# Altium schematic symbol library Geiger.SchLib: 11 symbols
Pins are listed as number, name and electrical type; pins without a type are passive.

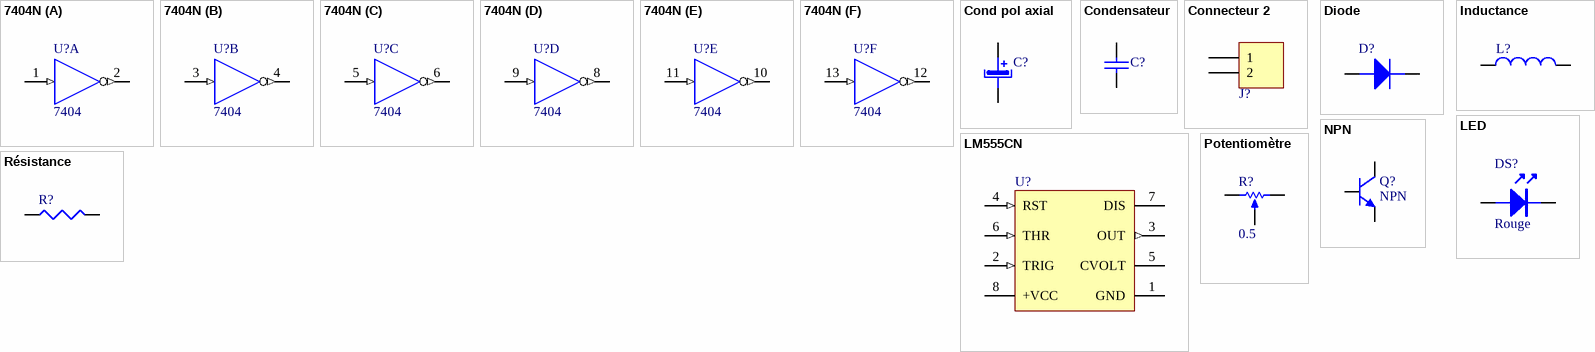
[diagram p0: symbols 7404N to Résistance]

## 7404N
designator U?  Type: 7404
6 inverters; Designer: ECAM 8/06/2000
footprint DIP14 (DIP; 14 Leads; Row Spacing 7.62 mm; Pitch 2.54 mm)
pins on every part: 7 GND (power) hidden to GND, 14 VCC (power) hidden to VCC
part A pins: 1 A (in), 2 Y (out)
part B pins: 3 A (in), 4 Y (out)
part C pins: 5 A (in), 6 Y (out)
part D pins: 8 Y (out), 9 A (in)
part E pins: 10 Y (out), 11 A (in)
part F pins: 12 Y (out), 13 A (in)

## Cond pol axial
designator C?
Condensateur polarisé; Type: Condensateur polarisé couché; Designer: ECAM 2004
footprint CAPPR2-5x6.8 (Capacitor, Electrolytic, Radial; Body 5 x 6.8 mm (Dia.xH typ); Pin Spacing 2 mm (typ))
footprint CAPPR5-5x5 (Capacitor, Electrolytic, Radial; Body 5 x 5 mm (Dia.xH typ); Pin Spacing 5 mm (typ))
footprint CAPPR7.5-16x35 (Capacitor, Electrolytic, Radial; Body 16 x 35 mm (Dia.xH typ); Pin Spacing 7.5 mm (typ))
footprint CAPR2.54-5.1x3.2 (Capacitor, Ceramic, Thru-Hole, Dipped Radial; Body 5.1 x 3.2 mm (WxT) Pin Spacing 2.54 mm (typ))
pins: 1 +, 2 -
2 alternate drawings of the same symbol

## Condensateur
designator C?
Condensateur; Supplier: Farnell; Designer: ECAM 2004
footprint CAPPR2-5x6.8 (Capacitor, Electrolytic, Radial; Body 5 x 6.8 mm (Dia.xH typ); Pin Spacing 2 mm (typ))
footprint CAPPR5-5x5 (Capacitor, Electrolytic, Radial; Body 5 x 5 mm (Dia.xH typ); Pin Spacing 5 mm (typ))
footprint CAPPR7.5-16x35 (Capacitor, Electrolytic, Radial; Body 16 x 35 mm (Dia.xH typ); Pin Spacing 7.5 mm (typ))
footprint CAPR2.54-5.1x3.2 (Capacitor, Ceramic, Thru-Hole, Dipped Radial; Body 5.1 x 3.2 mm (WxT) Pin Spacing 2.54 mm (typ))
footprint AXIAL-0.4 (Resistor; 2 Leads)
footprint AXIAL-0.3 (Resistor; 2 Leads)
pins: 1, 2

## Connecteur 2
designator J?
Connecteur; Designer: ECAM 2005; Type: Connecteur à vis
footprint HDR1X2 (Connector; Header; 2 Position)
pins: 1, 2

## Diode
designator D?
Diode; Type: Diode standard; Designer: ECAM 2003
footprint DIODE-0.4 (Tunnel Diode - Dependent Source Model; 2 Leads)
footprint AXIAL-0.4 (Resistor; 2 Leads)
footprint AXIAL-0.3 (Resistor; 2 Leads)
pins: 1 A, 2 K

## Inductance
designator L?
Inductance; Designer: ECAM 2003
footprint CAPPR7.5-16x35 (Capacitor, Electrolytic, Radial; Body 16 x 35 mm (Dia.xH typ); Pin Spacing 7.5 mm (typ))
pins: 1, 2

## LED
designator DS?  Color: Rouge
LED; Designer: ECAM 2004; Type: LED
footprint LED 0.1 (Led Verticale)
pins: 1 A, 2 K

## LM555CN
designator U?
Timer, 8-pin MDIP; PartNumber: LM555CN; Manufacturer: National Semiconductor; PackageTopMarking: NSUZXYTTE#*LM*555CN; PowerWise: N; CompType: Analog IC; Published: 4-Dec-2008; DatasheetVersion: Jul-2006; PackageVersion: revG, May-2006; PackageReference: N08E; Publisher: Altium Limited; PackageDescription: MDIP, .365 x .250 x .130in, 8 Lead, .100in Pitch; Supplier 1: Farnell; Supplier Part Number 1: 9488235; RoHS: N; PinCount: 8; Code_JEDEC: MS-001-BA; ComponentLink1Description: LM555 Datasheet; ComponentLink1URL: http://www.national.com/ds/LM/LM555.pdf; ComponentLink2Description: LM555 Web Page; ComponentLink2URL: http://www.national.com/pf/LM/LM555.html; ComponentLink3Description: N08E Package Page; ComponentLink3URL: http://www.national.com/packaging/folders/n08e.html
footprint DIP8 (DIP; 8 Leads; Row Spacing 7.62 mm; Pitch 2.54 mm)
pins: 1 GND (power), 2 TRIG (in), 3 OUT (out), 4 RST (in), 5 CVOLT, 6 THR (in), 7 DIS (oc), 8 +VCC (power)

## NPN
designator Q?  value NPN
Transistor Bipolaire; Type: Transistor Bipolaire NPN; Designer: ECAM 2002
footprint TO-92 (TO, Flat Index; 3 In-Line, Axial Leads; Body Dia. 4.6mm; Leads 0.48 x 0.43 mm (max) NOT ECAM RULES)
footprint TO-92 - Bis (TO, Flat Index; 3 In-Line, Axial Leads; Body Dia. 4.6mm; Leads 0.48 x 0.43 mm (max)); pin to pad 2>3 3>2
pins: 1 E, 2 B, 3 C
1 alternate drawing of the same symbol

## Potentiomètre
designator R?  Set Position: 0.5
Potentiomètre; Designer: ECAM 2002; Type: Résistance variable
footprint VR5 (Potentiometer; 3 Leads)
pins: 1 TOP, 2 BOT, 3 TAP
1 alternate drawing of the same symbol

## Résistance
designator R?
Résistance standard; Designer: ECAM 2005; Type: Résistance standard
footprint AXIAL-0.3 (Resistor; 2 Leads)
footprint AXIAL-0.4 (Resistor; 2 Leads)
pins: 1, 2
3 alternate drawings of the same symbol